# Altium footprint library QUTMS_PCBLibrary.PcbLib: 34 footprints (part 2 of 3)
Each footprint in its own frame and in the unit in brackets; x right, y up, seen from the top. Pads: shape width x height; smd on the part's side, far side on the other; paste and mask are expansions set on the pad; w line width, h text height; cw(c..) or ccw(c..) is an arc to the next point about the centre after c.
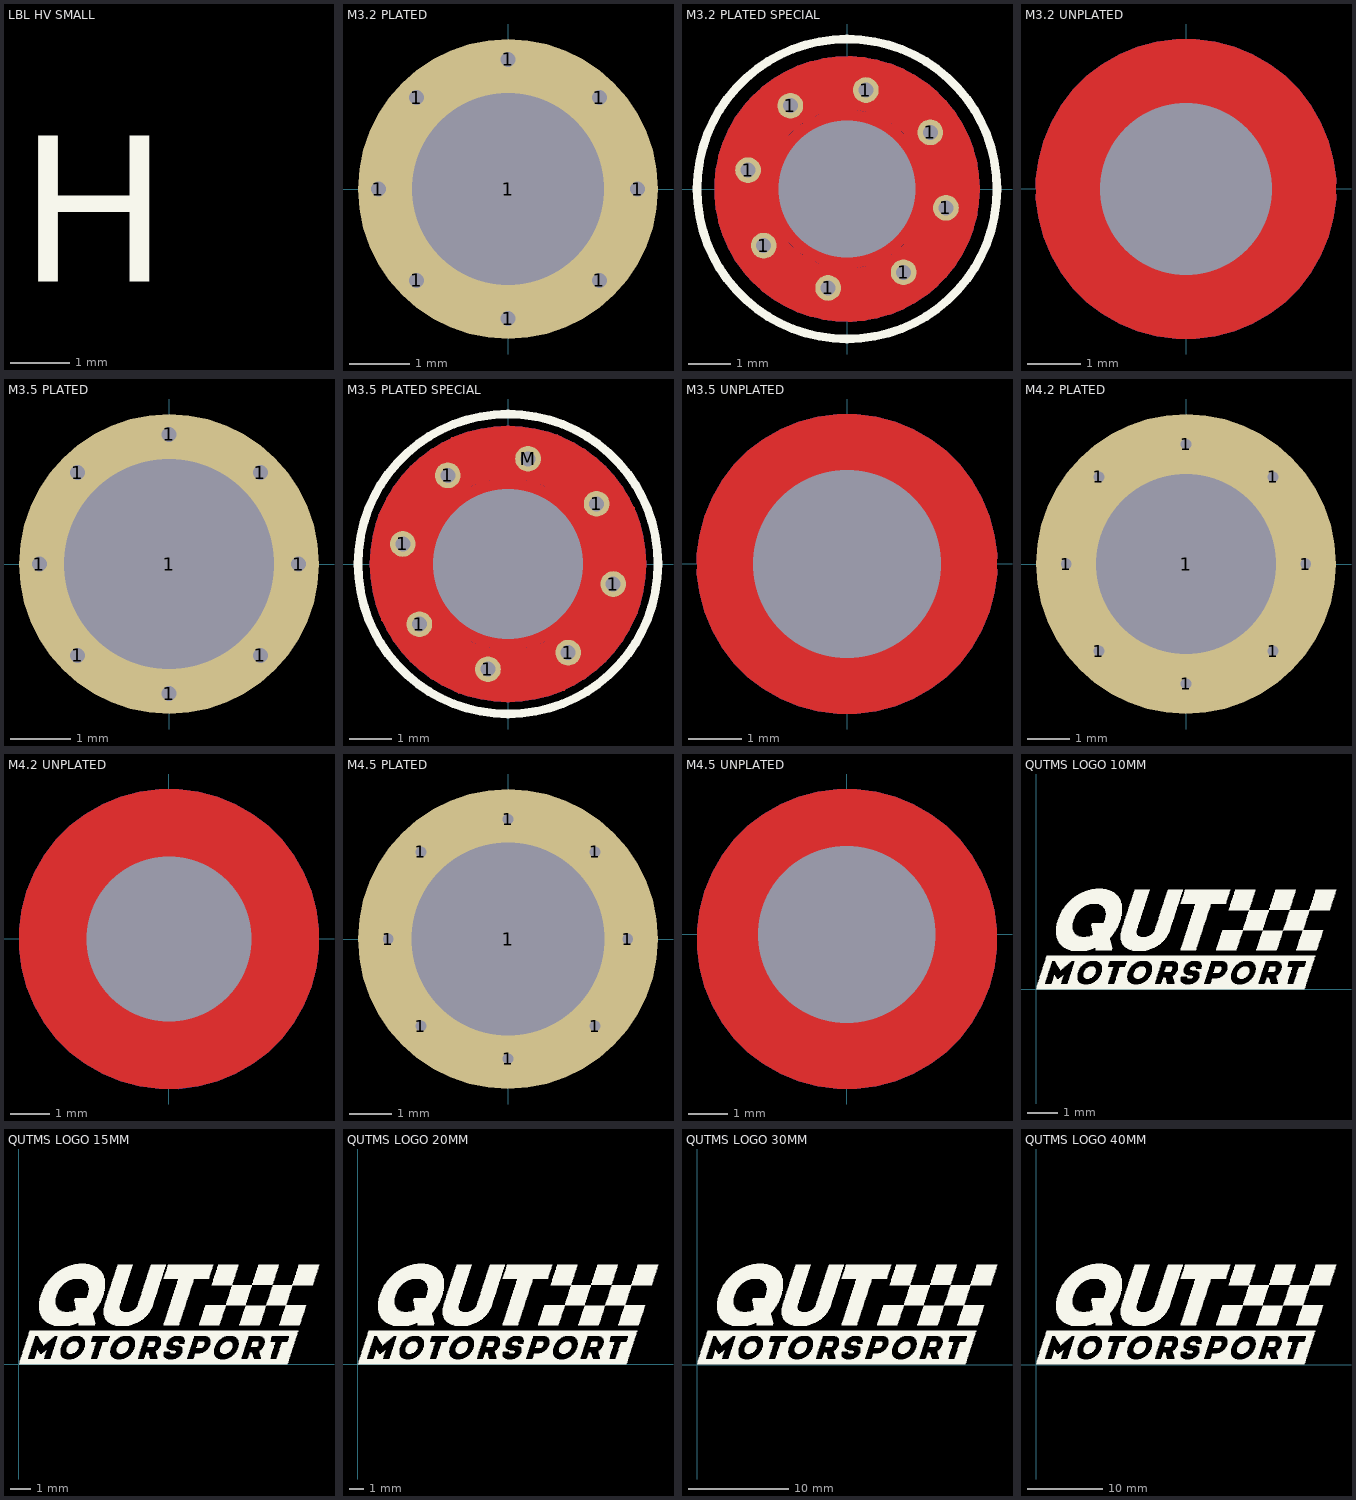
[diagram p1: the footprints below, top view; thin cyan lines are the x and y axes]

## LBL HV SMALL [mil]
Top Overlay:
  text "H" at -393.7,-393.7 h200

## M3.2 PLATED [mil]
pads (9):
  round 20 hole 10: 1(-85,0) 1(-60,-60) 1(-60,60) 1(0,-85) 1(0,85) 1(60,-60) 1(60,60) 1(85,0)
  round 196.85 hole 125.98: 1(0,0)

## M3.2 PLATED SPECIAL [mm]
pads (9):
  round 0.6 hole 0.35 mask+0.102: 1(-2.308,0.44) 1(-1.944,-1.321) 1(-1.321,1.944) 1(-0.44,-2.308) 1(0.44,2.308) 1(1.321,-1.944) 1(1.944,1.321) 1(2.308,-0.44)
  round 0 hole 3.2 unplated: 1(0,0)
Top Layer:
  circle w0.5: c0,0 r2.85
  circle w0.5: c0,0 r2.6
  circle w0.5: c0,0 r2.35
  circle w0.5: c0,0 r2.1
  pour cut-out: 0,-1.846 -0.182,-1.846 -0.538,-1.775 -0.874,-1.636 -1.177,-1.434 -1.434,-1.177 -1.636,-0.874 -1.775,-0.538 -1.846,-0.182 -1.846,0 -1.846,0.182 -1.775,0.538 -1.636,0.874 -1.434,1.177 -1.177,1.434 -0.874,1.636 -0.538,1.775 -0.182,1.846 0,1.846 0.182,1.846 0.538,1.775 0.874,1.636 1.177,1.434 1.434,1.177 1.636,0.874 1.775,0.538 1.846,0.182 1.846,0 1.846,-0.182 1.775,-0.538 1.636,-0.874 1.434,-1.177 1.177,-1.434 0.874,-1.636 0.538,-1.775 0.182,-1.846
Layer 1:
  pour cut-out: 0,-1.846 -0.182,-1.846 -0.538,-1.775 -0.874,-1.636 -1.177,-1.434 -1.434,-1.177 -1.636,-0.874 -1.775,-0.538 -1.846,-0.182 -1.846,0 -1.846,0.182 -1.775,0.538 -1.636,0.874 -1.434,1.177 -1.177,1.434 -0.874,1.636 -0.538,1.775 -0.182,1.846 0,1.846 0.182,1.846 0.538,1.775 0.874,1.636 1.177,1.434 1.434,1.177 1.636,0.874 1.775,0.538 1.846,0.182 1.846,0 1.846,-0.182 1.775,-0.538 1.636,-0.874 1.434,-1.177 1.177,-1.434 0.874,-1.636 0.538,-1.775 0.182,-1.846
Layer 2:
  pour cut-out: 0,-1.846 -0.182,-1.846 -0.538,-1.775 -0.874,-1.636 -1.177,-1.434 -1.434,-1.177 -1.636,-0.874 -1.775,-0.538 -1.846,-0.182 -1.846,0 -1.846,0.182 -1.775,0.538 -1.636,0.874 -1.434,1.177 -1.177,1.434 -0.874,1.636 -0.538,1.775 -0.182,1.846 0,1.846 0.182,1.846 0.538,1.775 0.874,1.636 1.177,1.434 1.434,1.177 1.636,0.874 1.775,0.538 1.846,0.182 1.846,0 1.846,-0.182 1.775,-0.538 1.636,-0.874 1.434,-1.177 1.177,-1.434 0.874,-1.636 0.538,-1.775 0.182,-1.846
Bottom Layer:
  circle w0.5: c0,0 r2.85
  circle w0.5: c0,0 r2.35
  circle w0.5: c0,0 r2.1
  circle w0.5: c0,0 r2.6
  pour cut-out: 0,-1.846 -0.182,-1.846 -0.538,-1.775 -0.874,-1.636 -1.177,-1.434 -1.434,-1.177 -1.636,-0.874 -1.775,-0.538 -1.846,-0.182 -1.846,0 -1.846,0.182 -1.775,0.538 -1.636,0.874 -1.434,1.177 -1.177,1.434 -0.874,1.636 -0.538,1.775 -0.182,1.846 0,1.846 0.182,1.846 0.538,1.775 0.874,1.636 1.177,1.434 1.434,1.177 1.636,0.874 1.775,0.538 1.846,0.182 1.846,0 1.846,-0.182 1.775,-0.538 1.636,-0.874 1.434,-1.177 1.177,-1.434 0.874,-1.636 0.538,-1.775 0.182,-1.846
Top Overlay:
  circle w0.2: c0,0 r3.5
Bottom Overlay:
  circle w0.2: c0,0 r3.5
Top Paste:
  region: 1.53,-1.039 1.462,-1.107 1.308,-1.302 1.108,-1.461 1.04,-1.529 1.169,-1.658 1.554,-1.762 1.938,-1.709 2.349,-1.609 2.919,-1.039 2.781,-0.622 2.537,-0.567 2.282,-0.724 1.873,-0.955
  region: 0.347,-1.817 0.251,-1.816 0.004,-1.846 -0.249,-1.816 -0.346,-1.816 -0.346,-1.999 -0.147,-2.345 0.162,-2.579 0.523,-2.799 1.33,-2.799 1.527,-2.406 1.393,-2.195 1.101,-2.126 0.649,-1.999
  region: -1.039,-1.53 -1.107,-1.462 -1.302,-1.308 -1.461,-1.108 -1.529,-1.04 -1.658,-1.169 -1.762,-1.554 -1.709,-1.938 -1.609,-2.349 -1.039,-2.919 -0.622,-2.781 -0.567,-2.537 -0.724,-2.282 -0.955,-1.873
  region: -1.817,-0.347 -1.816,-0.251 -1.846,-0.004 -1.816,0.249 -1.816,0.346 -1.999,0.346 -2.345,0.147 -2.579,-0.162 -2.799,-0.523 -2.799,-1.33 -2.406,-1.527 -2.195,-1.393 -2.126,-1.101 -1.999,-0.649
  region: -1.53,1.039 -1.462,1.107 -1.308,1.302 -1.108,1.461 -1.04,1.529 -1.169,1.658 -1.554,1.762 -1.938,1.709 -2.349,1.609 -2.919,1.039 -2.781,0.622 -2.537,0.567 -2.282,0.724 -1.873,0.955
  region: -0.347,1.817 -0.251,1.816 -0.004,1.846 0.249,1.816 0.346,1.816 0.346,1.999 0.147,2.345 -0.162,2.579 -0.523,2.799 -1.33,2.799 -1.527,2.406 -1.393,2.195 -1.101,2.126 -0.649,1.999
  region: 1.039,1.53 1.107,1.462 1.302,1.308 1.461,1.108 1.529,1.04 1.658,1.169 1.762,1.554 1.709,1.938 1.609,2.349 1.039,2.919 0.622,2.781 0.567,2.537 0.724,2.282 0.955,1.873
  region: 1.817,0.347 1.816,0.251 1.846,0.004 1.816,-0.249 1.816,-0.346 1.999,-0.346 2.345,-0.147 2.579,0.162 2.799,0.523 2.799,1.33 2.406,1.527 2.195,1.393 2.126,1.101 1.999,0.649
Bottom Paste:
  region: -1.039,-1.53 -1.107,-1.462 -1.302,-1.308 -1.461,-1.108 -1.529,-1.04 -1.658,-1.169 -1.762,-1.554 -1.709,-1.938 -1.609,-2.349 -1.039,-2.919 -0.622,-2.781 -0.567,-2.537 -0.724,-2.282 -0.955,-1.873
  region: -1.817,-0.347 -1.816,-0.251 -1.846,-0.004 -1.816,0.249 -1.816,0.346 -1.999,0.346 -2.345,0.147 -2.579,-0.162 -2.799,-0.523 -2.799,-1.33 -2.406,-1.527 -2.195,-1.393 -2.126,-1.101 -1.999,-0.649
  region: -1.53,1.039 -1.462,1.107 -1.308,1.302 -1.108,1.461 -1.04,1.529 -1.169,1.658 -1.554,1.762 -1.938,1.709 -2.349,1.609 -2.919,1.039 -2.781,0.622 -2.537,0.567 -2.282,0.724 -1.873,0.955
  region: -0.347,1.817 -0.251,1.816 -0.004,1.846 0.249,1.816 0.346,1.816 0.346,1.999 0.147,2.345 -0.162,2.579 -0.523,2.799 -1.33,2.799 -1.527,2.406 -1.393,2.195 -1.101,2.126 -0.649,1.999
  region: 1.039,1.53 1.107,1.462 1.302,1.308 1.461,1.108 1.529,1.04 1.658,1.169 1.762,1.554 1.709,1.938 1.609,2.349 1.039,2.919 0.622,2.781 0.567,2.537 0.724,2.282 0.955,1.873
  region: 1.817,0.347 1.816,0.251 1.846,0.004 1.816,-0.249 1.816,-0.346 1.999,-0.346 2.345,-0.147 2.579,0.162 2.799,0.523 2.799,1.33 2.406,1.527 2.195,1.393 2.126,1.101 1.999,0.649
  region: 1.53,-1.039 1.462,-1.107 1.308,-1.302 1.108,-1.461 1.04,-1.529 1.169,-1.658 1.554,-1.762 1.938,-1.709 2.349,-1.609 2.919,-1.039 2.781,-0.622 2.537,-0.567 2.282,-0.724 1.873,-0.955
  region: 0.347,-1.817 0.251,-1.816 0.004,-1.846 -0.249,-1.816 -0.346,-1.816 -0.346,-1.999 -0.147,-2.345 0.162,-2.579 0.523,-2.799 1.33,-2.799 1.527,-2.406 1.393,-2.195 1.101,-2.126 0.649,-1.999
Top Solder:
  region: -1.039,-1.53 -1.107,-1.462 -1.302,-1.308 -1.461,-1.108 -1.529,-1.04 -1.658,-1.169 -1.762,-1.554 -1.709,-1.938 -1.609,-2.349 -1.039,-2.919 -0.622,-2.781 -0.567,-2.537 -0.724,-2.282 -0.955,-1.873
  region: 1.817,0.347 1.816,0.251 1.846,0.004 1.816,-0.249 1.816,-0.346 1.999,-0.346 2.345,-0.147 2.579,0.162 2.799,0.523 2.799,1.33 2.406,1.527 2.195,1.393 2.126,1.101 1.999,0.649
  region: 1.039,1.53 1.107,1.462 1.302,1.308 1.461,1.108 1.529,1.04 1.658,1.169 1.762,1.554 1.709,1.938 1.609,2.349 1.039,2.919 0.622,2.781 0.567,2.537 0.724,2.282 0.955,1.873
  region: -0.347,1.817 -0.251,1.816 -0.004,1.846 0.249,1.816 0.346,1.816 0.346,1.999 0.147,2.345 -0.162,2.579 -0.523,2.799 -1.33,2.799 -1.527,2.406 -1.393,2.195 -1.101,2.126 -0.649,1.999
  region: -1.53,1.039 -1.462,1.107 -1.308,1.302 -1.108,1.461 -1.04,1.529 -1.169,1.658 -1.554,1.762 -1.938,1.709 -2.349,1.609 -2.919,1.039 -2.781,0.622 -2.537,0.567 -2.282,0.724 -1.873,0.955
  region: -1.817,-0.347 -1.816,-0.251 -1.846,-0.004 -1.816,0.249 -1.816,0.346 -1.999,0.346 -2.345,0.147 -2.579,-0.162 -2.799,-0.523 -2.799,-1.33 -2.406,-1.527 -2.195,-1.393 -2.126,-1.101 -1.999,-0.649
  region: 0.347,-1.817 0.251,-1.816 0.004,-1.846 -0.249,-1.816 -0.346,-1.816 -0.346,-1.999 -0.147,-2.345 0.162,-2.579 0.523,-2.799 1.33,-2.799 1.527,-2.406 1.393,-2.195 1.101,-2.126 0.649,-1.999
  region: 1.53,-1.039 1.462,-1.107 1.308,-1.302 1.108,-1.461 1.04,-1.529 1.169,-1.658 1.554,-1.762 1.938,-1.709 2.349,-1.609 2.919,-1.039 2.781,-0.622 2.537,-0.567 2.282,-0.724 1.873,-0.955
Bottom Solder:
  region: 1.53,-1.039 1.462,-1.107 1.308,-1.302 1.108,-1.461 1.04,-1.529 1.169,-1.658 1.554,-1.762 1.938,-1.709 2.349,-1.609 2.919,-1.039 2.781,-0.622 2.537,-0.567 2.282,-0.724 1.873,-0.955
  region: -1.039,-1.53 -1.107,-1.462 -1.302,-1.308 -1.461,-1.108 -1.529,-1.04 -1.658,-1.169 -1.762,-1.554 -1.709,-1.938 -1.609,-2.349 -1.039,-2.919 -0.622,-2.781 -0.567,-2.537 -0.724,-2.282 -0.955,-1.873
  region: -1.817,-0.347 -1.816,-0.251 -1.846,-0.004 -1.816,0.249 -1.816,0.346 -1.999,0.346 -2.345,0.147 -2.579,-0.162 -2.799,-0.523 -2.799,-1.33 -2.406,-1.527 -2.195,-1.393 -2.126,-1.101 -1.999,-0.649
  region: -1.53,1.039 -1.462,1.107 -1.308,1.302 -1.108,1.461 -1.04,1.529 -1.169,1.658 -1.554,1.762 -1.938,1.709 -2.349,1.609 -2.919,1.039 -2.781,0.622 -2.537,0.567 -2.282,0.724 -1.873,0.955
  region: -0.347,1.817 -0.251,1.816 -0.004,1.846 0.249,1.816 0.346,1.816 0.346,1.999 0.147,2.345 -0.162,2.579 -0.523,2.799 -1.33,2.799 -1.527,2.406 -1.393,2.195 -1.101,2.126 -0.649,1.999
  region: 1.039,1.53 1.107,1.462 1.302,1.308 1.461,1.108 1.529,1.04 1.658,1.169 1.762,1.554 1.709,1.938 1.609,2.349 1.039,2.919 0.622,2.781 0.567,2.537 0.724,2.282 0.955,1.873
  region: 1.817,0.347 1.816,0.251 1.846,0.004 1.816,-0.249 1.816,-0.346 1.999,-0.346 2.345,-0.147 2.579,0.162 2.799,0.523 2.799,1.33 2.406,1.527 2.195,1.393 2.126,1.101 1.999,0.649
  region: 0.347,-1.817 0.251,-1.816 0.004,-1.846 -0.249,-1.816 -0.346,-1.816 -0.346,-1.999 -0.147,-2.345 0.162,-2.579 0.523,-2.799 1.33,-2.799 1.527,-2.406 1.393,-2.195 1.101,-2.126 0.649,-1.999

## M3.2 UNPLATED [mm]
pads (1):
  round 0 hole 3.2 unplated mask+2.6: 1(0,0)
Top Layer:
  pour cut-out: 0,-2.794 -0.183,-2.794 -0.546,-2.746 -0.9,-2.651 -1.238,-2.511 -1.556,-2.328 -1.846,-2.105 -2.105,-1.846 -2.328,-1.556 -2.511,-1.238 -2.651,-0.9 -2.746,-0.546 -2.794,-0.183 -2.794,0 -2.794,0.183 -2.746,0.546 -2.651,0.9 -2.511,1.238 -2.328,1.556 -2.105,1.846 -1.846,2.105 -1.556,2.328 -1.238,2.511 -0.9,2.651 -0.546,2.746 -0.183,2.794 0,2.794 0.183,2.794 0.546,2.746 0.9,2.651 1.238,2.511 1.556,2.328 1.846,2.105 2.105,1.846 2.328,1.556 2.511,1.238 2.651,0.9 2.746,0.546 2.794,0.183 2.794,0 2.794,-0.183 2.746,-0.546 2.651,-0.9 2.511,-1.238 2.328,-1.556 2.105,-1.846 1.846,-2.105 1.556,-2.328 1.238,-2.511 0.9,-2.651 0.546,-2.746 0.183,-2.794
Bottom Layer:
  pour cut-out: 0,-2.794 -0.183,-2.794 -0.546,-2.746 -0.9,-2.651 -1.238,-2.511 -1.556,-2.328 -1.846,-2.105 -2.105,-1.846 -2.328,-1.556 -2.511,-1.238 -2.651,-0.9 -2.746,-0.546 -2.794,-0.183 -2.794,0 -2.794,0.183 -2.746,0.546 -2.651,0.9 -2.511,1.238 -2.328,1.556 -2.105,1.846 -1.846,2.105 -1.556,2.328 -1.238,2.511 -0.9,2.651 -0.546,2.746 -0.183,2.794 0,2.794 0.183,2.794 0.546,2.746 0.9,2.651 1.238,2.511 1.556,2.328 1.846,2.105 2.105,1.846 2.328,1.556 2.511,1.238 2.651,0.9 2.746,0.546 2.794,0.183 2.794,0 2.794,-0.183 2.746,-0.546 2.651,-0.9 2.511,-1.238 2.328,-1.556 2.105,-1.846 1.846,-2.105 1.556,-2.328 1.238,-2.511 0.9,-2.651 0.546,-2.746 0.183,-2.794

## M3.5 PLATED [mil]
pads (9):
  round 20 hole 10: 1(-85,0) 1(-60,-60) 1(-60,60) 1(0,-85) 1(0,85) 1(60,-60) 1(60,60) 1(85,0)
  round 196.85 hole 137.8: 1(0,0)

## M3.5 PLATED SPECIAL [mm]
pads (9):
  round 0.6 hole 0.35 mask+0.102: 1(-2.456,0.468) 1(-2.068,-1.405) 1(-1.405,2.068) 1(-0.468,-2.456) 1(1.405,-2.068) 1(2.068,1.405) 1(2.456,-0.468) M(0.468,2.456)
  round 0 hole 3.5 unplated: 1(0,0)
Top Layer:
  circle w0.5: c0,0 r2.616
  circle w0.4: c0,0 r2.2
  circle w0.5: c0,0 r2.9
  circle w0.254: c0,0 r3.1
  region: 1.151,1.636 1.219,1.568 1.414,1.414 1.573,1.214 1.641,1.146 1.771,1.275 1.874,1.66 1.821,2.044 1.721,2.455 1.151,3.025 0.734,2.887 0.679,2.643 0.837,2.388 1.067,1.979
  region: 1.971,0.343 1.971,0.246 2,0 1.971,-0.254 1.971,-0.35 2.154,-0.35 2.499,-0.151 2.733,0.158 2.953,0.519 2.953,1.325 2.561,1.523 2.35,1.389 2.28,1.097 2.154,0.645
  region: 1.636,-1.151 1.568,-1.219 1.414,-1.414 1.214,-1.573 1.146,-1.641 1.275,-1.771 1.66,-1.874 2.044,-1.821 2.455,-1.721 3.025,-1.151 2.887,-0.734 2.643,-0.679 2.388,-0.837 1.979,-1.067
  region: 0.343,-1.971 0.246,-1.971 0,-2 -0.254,-1.971 -0.35,-1.971 -0.35,-2.154 -0.151,-2.499 0.158,-2.733 0.519,-2.953 1.325,-2.953 1.523,-2.561 1.389,-2.35 1.097,-2.28 0.645,-2.154
  region: -1.151,-1.636 -1.219,-1.568 -1.414,-1.414 -1.573,-1.214 -1.641,-1.146 -1.771,-1.275 -1.874,-1.66 -1.821,-2.044 -1.721,-2.455 -1.151,-3.025 -0.734,-2.887 -0.679,-2.643 -0.837,-2.388 -1.067,-1.979
  region: -1.971,-0.343 -1.971,-0.246 -2,0 -1.971,0.254 -1.971,0.35 -2.154,0.35 -2.499,0.151 -2.733,-0.158 -2.953,-0.519 -2.953,-1.325 -2.561,-1.523 -2.35,-1.389 -2.28,-1.097 -2.154,-0.645
  region: -1.636,1.151 -1.568,1.219 -1.414,1.414 -1.214,1.573 -1.146,1.641 -1.275,1.771 -1.66,1.874 -2.044,1.821 -2.455,1.721 -3.025,1.151 -2.887,0.734 -2.643,0.679 -2.388,0.837 -1.979,1.067
  region: -0.343,1.971 -0.246,1.971 0,2 0.254,1.971 0.35,1.971 0.35,2.154 0.151,2.499 -0.158,2.733 -0.519,2.953 -1.325,2.953 -1.523,2.561 -1.389,2.35 -1.097,2.28 -0.645,2.154
  pour cut-out: 0,-2 -0.197,-2 -0.583,-1.923 -0.947,-1.772 -1.275,-1.553 -1.553,-1.275 -1.772,-0.947 -1.923,-0.583 -2,-0.197 -2,0 -2,0.197 -1.923,0.583 -1.772,0.947 -1.553,1.275 -1.275,1.553 -0.947,1.772 -0.583,1.923 -0.197,2 0,2 0.197,2 0.583,1.923 0.947,1.772 1.275,1.553 1.553,1.275 1.772,0.947 1.923,0.583 2,0.197 2,0 2,-0.197 1.923,-0.583 1.772,-0.947 1.553,-1.275 1.275,-1.553 0.947,-1.772 0.583,-1.923 0.197,-2
Layer 1:
  pour cut-out: 0,-2 -0.197,-2 -0.583,-1.923 -0.947,-1.772 -1.275,-1.553 -1.553,-1.275 -1.772,-0.947 -1.923,-0.583 -2,-0.197 -2,0 -2,0.197 -1.923,0.583 -1.772,0.947 -1.553,1.275 -1.275,1.553 -0.947,1.772 -0.583,1.923 -0.197,2 0,2 0.197,2 0.583,1.923 0.947,1.772 1.275,1.553 1.553,1.275 1.772,0.947 1.923,0.583 2,0.197 2,0 2,-0.197 1.923,-0.583 1.772,-0.947 1.553,-1.275 1.275,-1.553 0.947,-1.772 0.583,-1.923 0.197,-2
Layer 2:
  pour cut-out: 0,-2 -0.197,-2 -0.583,-1.923 -0.947,-1.772 -1.275,-1.553 -1.553,-1.275 -1.772,-0.947 -1.923,-0.583 -2,-0.197 -2,0 -2,0.197 -1.923,0.583 -1.772,0.947 -1.553,1.275 -1.275,1.553 -0.947,1.772 -0.583,1.923 -0.197,2 0,2 0.197,2 0.583,1.923 0.947,1.772 1.275,1.553 1.553,1.275 1.772,0.947 1.923,0.583 2,0.197 2,0 2,-0.197 1.923,-0.583 1.772,-0.947 1.553,-1.275 1.275,-1.553 0.947,-1.772 0.583,-1.923 0.197,-2
Bottom Layer:
  circle w0.254: c0,0 r3.1
  circle w0.4: c0,0 r2.2
  circle w0.5: c0,0 r2.616
  circle w0.5: c0,0 r2.9
  region: 0.343,-1.971 0.246,-1.971 0,-2 -0.254,-1.971 -0.35,-1.971 -0.35,-2.154 -0.151,-2.499 0.158,-2.733 0.519,-2.953 1.325,-2.953 1.523,-2.561 1.389,-2.35 1.097,-2.28 0.645,-2.154
  region: 1.636,-1.151 1.568,-1.219 1.414,-1.414 1.214,-1.573 1.146,-1.641 1.275,-1.771 1.66,-1.874 2.044,-1.821 2.455,-1.721 3.025,-1.151 2.887,-0.734 2.643,-0.679 2.388,-0.837 1.979,-1.067
  region: 1.971,0.343 1.971,0.246 2,0 1.971,-0.254 1.971,-0.35 2.154,-0.35 2.499,-0.151 2.733,0.158 2.953,0.519 2.953,1.325 2.561,1.523 2.35,1.389 2.28,1.097 2.154,0.645
  region: 1.151,1.636 1.219,1.568 1.414,1.414 1.573,1.214 1.641,1.146 1.771,1.275 1.874,1.66 1.821,2.044 1.721,2.455 1.151,3.025 0.734,2.887 0.679,2.643 0.837,2.388 1.067,1.979
  region: -0.343,1.971 -0.246,1.971 0,2 0.254,1.971 0.35,1.971 0.35,2.154 0.151,2.499 -0.158,2.733 -0.519,2.953 -1.325,2.953 -1.523,2.561 -1.389,2.35 -1.097,2.28 -0.645,2.154
  region: -1.636,1.151 -1.568,1.219 -1.414,1.414 -1.214,1.573 -1.146,1.641 -1.275,1.771 -1.66,1.874 -2.044,1.821 -2.455,1.721 -3.025,1.151 -2.887,0.734 -2.643,0.679 -2.388,0.837 -1.979,1.067
  region: -1.971,-0.343 -1.971,-0.246 -2,0 -1.971,0.254 -1.971,0.35 -2.154,0.35 -2.499,0.151 -2.733,-0.158 -2.953,-0.519 -2.953,-1.325 -2.561,-1.523 -2.35,-1.389 -2.28,-1.097 -2.154,-0.645
  region: -1.151,-1.636 -1.219,-1.568 -1.414,-1.414 -1.573,-1.214 -1.641,-1.146 -1.771,-1.275 -1.874,-1.66 -1.821,-2.044 -1.721,-2.455 -1.151,-3.025 -0.734,-2.887 -0.679,-2.643 -0.837,-2.388 -1.067,-1.979
  pour cut-out: 0,-2 -0.197,-2 -0.583,-1.923 -0.947,-1.772 -1.275,-1.553 -1.553,-1.275 -1.772,-0.947 -1.923,-0.583 -2,-0.197 -2,0 -2,0.197 -1.923,0.583 -1.772,0.947 -1.553,1.275 -1.275,1.553 -0.947,1.772 -0.583,1.923 -0.197,2 0,2 0.197,2 0.583,1.923 0.947,1.772 1.275,1.553 1.553,1.275 1.772,0.947 1.923,0.583 2,0.197 2,0 2,-0.197 1.923,-0.583 1.772,-0.947 1.553,-1.275 1.275,-1.553 0.947,-1.772 0.583,-1.923 0.197,-2
Top Overlay:
  circle w0.2: c0,0 r3.5
Bottom Overlay:
  circle w0.2: c0,0 r3.5
Top Paste:
  region: 0.343,-1.971 0.246,-1.971 0,-2 -0.254,-1.971 -0.35,-1.971 -0.35,-2.154 -0.151,-2.499 0.158,-2.733 0.519,-2.953 1.325,-2.953 1.523,-2.561 1.389,-2.35 1.097,-2.28 0.645,-2.154
  region: 1.636,-1.151 1.568,-1.219 1.414,-1.414 1.214,-1.573 1.146,-1.641 1.275,-1.771 1.66,-1.874 2.044,-1.821 2.455,-1.721 3.025,-1.151 2.887,-0.734 2.643,-0.679 2.388,-0.837 1.979,-1.067
  region: 1.971,0.343 1.971,0.246 2,0 1.971,-0.254 1.971,-0.35 2.154,-0.35 2.499,-0.151 2.733,0.158 2.953,0.519 2.953,1.325 2.561,1.523 2.35,1.389 2.28,1.097 2.154,0.645
  region: 1.151,1.636 1.219,1.568 1.414,1.414 1.573,1.214 1.641,1.146 1.771,1.275 1.874,1.66 1.821,2.044 1.721,2.455 1.151,3.025 0.734,2.887 0.679,2.643 0.837,2.388 1.067,1.979
  region: -0.343,1.971 -0.246,1.971 0,2 0.254,1.971 0.35,1.971 0.35,2.154 0.151,2.499 -0.158,2.733 -0.519,2.953 -1.325,2.953 -1.523,2.561 -1.389,2.35 -1.097,2.28 -0.645,2.154
  region: -1.636,1.151 -1.568,1.219 -1.414,1.414 -1.214,1.573 -1.146,1.641 -1.275,1.771 -1.66,1.874 -2.044,1.821 -2.455,1.721 -3.025,1.151 -2.887,0.734 -2.643,0.679 -2.388,0.837 -1.979,1.067
  region: -1.971,-0.343 -1.971,-0.246 -2,0 -1.971,0.254 -1.971,0.35 -2.154,0.35 -2.499,0.151 -2.733,-0.158 -2.953,-0.519 -2.953,-1.325 -2.561,-1.523 -2.35,-1.389 -2.28,-1.097 -2.154,-0.645
  region: -1.151,-1.636 -1.219,-1.568 -1.414,-1.414 -1.573,-1.214 -1.641,-1.146 -1.771,-1.275 -1.874,-1.66 -1.821,-2.044 -1.721,-2.455 -1.151,-3.025 -0.734,-2.887 -0.679,-2.643 -0.837,-2.388 -1.067,-1.979
Bottom Paste:
  region: 1.636,-1.151 1.568,-1.219 1.414,-1.414 1.214,-1.573 1.146,-1.641 1.275,-1.771 1.66,-1.874 2.044,-1.821 2.455,-1.721 3.025,-1.151 2.887,-0.734 2.643,-0.679 2.388,-0.837 1.979,-1.067
  region: 0.343,-1.971 0.246,-1.971 0,-2 -0.254,-1.971 -0.35,-1.971 -0.35,-2.154 -0.151,-2.499 0.158,-2.733 0.519,-2.953 1.325,-2.953 1.523,-2.561 1.389,-2.35 1.097,-2.28 0.645,-2.154
  region: -1.151,-1.636 -1.219,-1.568 -1.414,-1.414 -1.573,-1.214 -1.641,-1.146 -1.771,-1.275 -1.874,-1.66 -1.821,-2.044 -1.721,-2.455 -1.151,-3.025 -0.734,-2.887 -0.679,-2.643 -0.837,-2.388 -1.067,-1.979
  region: -1.971,-0.343 -1.971,-0.246 -2,0 -1.971,0.254 -1.971,0.35 -2.154,0.35 -2.499,0.151 -2.733,-0.158 -2.953,-0.519 -2.953,-1.325 -2.561,-1.523 -2.35,-1.389 -2.28,-1.097 -2.154,-0.645
  region: -1.636,1.151 -1.568,1.219 -1.414,1.414 -1.214,1.573 -1.146,1.641 -1.275,1.771 -1.66,1.874 -2.044,1.821 -2.455,1.721 -3.025,1.151 -2.887,0.734 -2.643,0.679 -2.388,0.837 -1.979,1.067
  region: -0.343,1.971 -0.246,1.971 0,2 0.254,1.971 0.35,1.971 0.35,2.154 0.151,2.499 -0.158,2.733 -0.519,2.953 -1.325,2.953 -1.523,2.561 -1.389,2.35 -1.097,2.28 -0.645,2.154
  region: 1.151,1.636 1.219,1.568 1.414,1.414 1.573,1.214 1.641,1.146 1.771,1.275 1.874,1.66 1.821,2.044 1.721,2.455 1.151,3.025 0.734,2.887 0.679,2.643 0.837,2.388 1.067,1.979
  region: 1.971,0.343 1.971,0.246 2,0 1.971,-0.254 1.971,-0.35 2.154,-0.35 2.499,-0.151 2.733,0.158 2.953,0.519 2.953,1.325 2.561,1.523 2.35,1.389 2.28,1.097 2.154,0.645
Top Solder:
  region: 0.343,-1.971 0.246,-1.971 0,-2 -0.254,-1.971 -0.35,-1.971 -0.35,-2.154 -0.151,-2.499 0.158,-2.733 0.519,-2.953 1.325,-2.953 1.523,-2.561 1.389,-2.35 1.097,-2.28 0.645,-2.154
  region: 1.971,0.343 1.971,0.246 2,0 1.971,-0.254 1.971,-0.35 2.154,-0.35 2.499,-0.151 2.733,0.158 2.953,0.519 2.953,1.325 2.561,1.523 2.35,1.389 2.28,1.097 2.154,0.645
  region: 1.636,-1.151 1.568,-1.219 1.414,-1.414 1.214,-1.573 1.146,-1.641 1.275,-1.771 1.66,-1.874 2.044,-1.821 2.455,-1.721 3.025,-1.151 2.887,-0.734 2.643,-0.679 2.388,-0.837 1.979,-1.067
  region: 1.151,1.636 1.219,1.568 1.414,1.414 1.573,1.214 1.641,1.146 1.771,1.275 1.874,1.66 1.821,2.044 1.721,2.455 1.151,3.025 0.734,2.887 0.679,2.643 0.837,2.388 1.067,1.979
  region: -0.343,1.971 -0.246,1.971 0,2 0.254,1.971 0.35,1.971 0.35,2.154 0.151,2.499 -0.158,2.733 -0.519,2.953 -1.325,2.953 -1.523,2.561 -1.389,2.35 -1.097,2.28 -0.645,2.154
  region: -1.151,-1.636 -1.219,-1.568 -1.414,-1.414 -1.573,-1.214 -1.641,-1.146 -1.771,-1.275 -1.874,-1.66 -1.821,-2.044 -1.721,-2.455 -1.151,-3.025 -0.734,-2.887 -0.679,-2.643 -0.837,-2.388 -1.067,-1.979
  region: -1.971,-0.343 -1.971,-0.246 -2,0 -1.971,0.254 -1.971,0.35 -2.154,0.35 -2.499,0.151 -2.733,-0.158 -2.953,-0.519 -2.953,-1.325 -2.561,-1.523 -2.35,-1.389 -2.28,-1.097 -2.154,-0.645
  region: -1.636,1.151 -1.568,1.219 -1.414,1.414 -1.214,1.573 -1.146,1.641 -1.275,1.771 -1.66,1.874 -2.044,1.821 -2.455,1.721 -3.025,1.151 -2.887,0.734 -2.643,0.679 -2.388,0.837 -1.979,1.067
Bottom Solder:
  region: -1.151,-1.636 -1.219,-1.568 -1.414,-1.414 -1.573,-1.214 -1.641,-1.146 -1.771,-1.275 -1.874,-1.66 -1.821,-2.044 -1.721,-2.455 -1.151,-3.025 -0.734,-2.887 -0.679,-2.643 -0.837,-2.388 -1.067,-1.979
  region: 0.343,-1.971 0.246,-1.971 0,-2 -0.254,-1.971 -0.35,-1.971 -0.35,-2.154 -0.151,-2.499 0.158,-2.733 0.519,-2.953 1.325,-2.953 1.523,-2.561 1.389,-2.35 1.097,-2.28 0.645,-2.154
  region: 1.636,-1.151 1.568,-1.219 1.414,-1.414 1.214,-1.573 1.146,-1.641 1.275,-1.771 1.66,-1.874 2.044,-1.821 2.455,-1.721 3.025,-1.151 2.887,-0.734 2.643,-0.679 2.388,-0.837 1.979,-1.067
  region: 1.971,0.343 1.971,0.246 2,0 1.971,-0.254 1.971,-0.35 2.154,-0.35 2.499,-0.151 2.733,0.158 2.953,0.519 2.953,1.325 2.561,1.523 2.35,1.389 2.28,1.097 2.154,0.645
  region: 1.151,1.636 1.219,1.568 1.414,1.414 1.573,1.214 1.641,1.146 1.771,1.275 1.874,1.66 1.821,2.044 1.721,2.455 1.151,3.025 0.734,2.887 0.679,2.643 0.837,2.388 1.067,1.979
  region: -0.343,1.971 -0.246,1.971 0,2 0.254,1.971 0.35,1.971 0.35,2.154 0.151,2.499 -0.158,2.733 -0.519,2.953 -1.325,2.953 -1.523,2.561 -1.389,2.35 -1.097,2.28 -0.645,2.154
  region: -1.636,1.151 -1.568,1.219 -1.414,1.414 -1.214,1.573 -1.146,1.641 -1.275,1.771 -1.66,1.874 -2.044,1.821 -2.455,1.721 -3.025,1.151 -2.887,0.734 -2.643,0.679 -2.388,0.837 -1.979,1.067
  region: -1.971,-0.343 -1.971,-0.246 -2,0 -1.971,0.254 -1.971,0.35 -2.154,0.35 -2.499,0.151 -2.733,-0.158 -2.953,-0.519 -2.953,-1.325 -2.561,-1.523 -2.35,-1.389 -2.28,-1.097 -2.154,-0.645

## M3.5 UNPLATED [mm]
pads (1):
  round 0 hole 3.5 unplated mask+2.6: 1(0,0)
Top Layer:
  pour cut-out: 0,-2.794 -0.183,-2.794 -0.546,-2.746 -0.9,-2.651 -1.238,-2.511 -1.556,-2.328 -1.846,-2.105 -2.105,-1.846 -2.328,-1.556 -2.511,-1.238 -2.651,-0.9 -2.746,-0.546 -2.794,-0.183 -2.794,0 -2.794,0.183 -2.746,0.546 -2.651,0.9 -2.511,1.238 -2.328,1.556 -2.105,1.846 -1.846,2.105 -1.556,2.328 -1.238,2.511 -0.9,2.651 -0.546,2.746 -0.183,2.794 0,2.794 0.183,2.794 0.546,2.746 0.9,2.651 1.238,2.511 1.556,2.328 1.846,2.105 2.105,1.846 2.328,1.556 2.511,1.238 2.651,0.9 2.746,0.546 2.794,0.183 2.794,0 2.794,-0.183 2.746,-0.546 2.651,-0.9 2.511,-1.238 2.328,-1.556 2.105,-1.846 1.846,-2.105 1.556,-2.328 1.238,-2.511 0.9,-2.651 0.546,-2.746 0.183,-2.794
Bottom Layer:
  pour cut-out: 0,-2.794 -0.183,-2.794 -0.546,-2.746 -0.9,-2.651 -1.238,-2.511 -1.556,-2.328 -1.846,-2.105 -2.105,-1.846 -2.328,-1.556 -2.511,-1.238 -2.651,-0.9 -2.746,-0.546 -2.794,-0.183 -2.794,0 -2.794,0.183 -2.746,0.546 -2.651,0.9 -2.511,1.238 -2.328,1.556 -2.105,1.846 -1.846,2.105 -1.556,2.328 -1.238,2.511 -0.9,2.651 -0.546,2.746 -0.183,2.794 0,2.794 0.183,2.794 0.546,2.746 0.9,2.651 1.238,2.511 1.556,2.328 1.846,2.105 2.105,1.846 2.328,1.556 2.511,1.238 2.651,0.9 2.746,0.546 2.794,0.183 2.794,0 2.794,-0.183 2.746,-0.546 2.651,-0.9 2.511,-1.238 2.328,-1.556 2.105,-1.846 1.846,-2.105 1.556,-2.328 1.238,-2.511 0.9,-2.651 0.546,-2.746 0.183,-2.794

## M4.2 PLATED [mil]
pads (9):
  round 20 hole 10: 1(-110,0) 1(-80,-80) 1(-80,80) 1(0,-110) 1(0,110) 1(80,-80) 1(80,80) 1(110,0)
  round 275.59 hole 165.35: 1(0,0)

## M4.2 UNPLATED [mm]
pads (1):
  round 0 hole 4.2 unplated mask+3.6: 1(0,0)
Top Layer:
  pour cut-out: 0,-3.81 -0.25,-3.81 -0.745,-3.745 -1.227,-3.616 -1.689,-3.424 -2.121,-3.175 -2.518,-2.871 -2.871,-2.518 -3.175,-2.121 -3.424,-1.689 -3.616,-1.227 -3.745,-0.745 -3.81,-0.25 -3.81,0 -3.81,0.25 -3.745,0.745 -3.616,1.227 -3.424,1.689 -3.175,2.121 -2.871,2.517 -2.518,2.871 -2.121,3.175 -1.689,3.424 -1.227,3.616 -0.745,3.745 -0.25,3.81 0,3.81 0.25,3.81 0.745,3.745 1.227,3.616 1.689,3.424 2.121,3.175 2.517,2.871 2.871,2.518 3.175,2.121 3.424,1.689 3.616,1.227 3.745,0.745 3.81,0.25 3.81,0 3.81,-0.25 3.745,-0.745 3.616,-1.227 3.424,-1.689 3.175,-2.121 2.871,-2.518 2.518,-2.871 2.121,-3.175 1.689,-3.424 1.227,-3.616 0.745,-3.745 0.25,-3.81
Bottom Layer:
  pour cut-out: 0,-3.81 -0.25,-3.81 -0.745,-3.745 -1.227,-3.616 -1.689,-3.424 -2.121,-3.175 -2.518,-2.871 -2.871,-2.518 -3.175,-2.121 -3.424,-1.689 -3.616,-1.227 -3.745,-0.745 -3.81,-0.25 -3.81,0 -3.81,0.25 -3.745,0.745 -3.616,1.227 -3.424,1.689 -3.175,2.121 -2.871,2.517 -2.518,2.871 -2.121,3.175 -1.689,3.424 -1.227,3.616 -0.745,3.745 -0.25,3.81 0,3.81 0.25,3.81 0.745,3.745 1.227,3.616 1.689,3.424 2.121,3.175 2.518,2.871 2.871,2.518 3.175,2.121 3.424,1.689 3.616,1.227 3.745,0.745 3.81,0.25 3.81,0 3.81,-0.25 3.745,-0.745 3.616,-1.227 3.424,-1.689 3.175,-2.121 2.871,-2.518 2.518,-2.871 2.121,-3.175 1.689,-3.424 1.227,-3.616 0.745,-3.745 0.25,-3.81

## M4.5 PLATED [mil]
pads (9):
  round 20 hole 10: 1(-110,0) 1(-80,-80) 1(-80,80) 1(0,-110) 1(0,110) 1(80,-80) 1(80,80) 1(110,0)
  round 275.59 hole 177.17: 1(0,0)

## M4.5 UNPLATED [mm]
pads (1):
  round 0 hole 4.5 unplated mask+3.6: 1(0,0)
Top Layer:
  pour cut-out: 0.006,-3.927 -0.243,-3.927 -0.739,-3.862 -1.221,-3.732 -1.683,-3.541 -2.115,-3.291 -2.511,-2.987 -2.864,-2.634 -3.168,-2.238 -3.418,-1.805 -3.609,-1.344 -3.739,-0.862 -3.804,-0.366 -3.804,-0.117 -3.804,0.133 -3.739,0.628 -3.609,1.111 -3.418,1.572 -3.168,2.005 -2.864,2.401 -2.511,2.754 -2.115,3.058 -1.682,3.308 -1.221,3.499 -0.739,3.628 -0.243,3.693 0.006,3.693 0.256,3.693 0.751,3.628 1.234,3.499 1.695,3.308 2.128,3.058 2.524,2.754 2.877,2.401 3.181,2.005 3.431,1.572 3.622,1.111 3.751,0.628 3.816,0.133 3.816,-0.117 3.816,-0.366 3.751,-0.862 3.622,-1.344 3.431,-1.805 3.181,-2.238 2.877,-2.634 2.524,-2.987 2.128,-3.291 1.695,-3.541 1.234,-3.732 0.751,-3.862 0.256,-3.927
Bottom Layer:
  pour cut-out: 0.006,-3.927 -0.243,-3.927 -0.739,-3.862 -1.221,-3.732 -1.682,-3.541 -2.115,-3.291 -2.511,-2.987 -2.864,-2.634 -3.168,-2.238 -3.418,-1.805 -3.609,-1.344 -3.739,-0.862 -3.804,-0.366 -3.804,-0.117 -3.804,0.133 -3.739,0.628 -3.609,1.111 -3.418,1.572 -3.168,2.005 -2.864,2.401 -2.511,2.754 -2.115,3.058 -1.682,3.308 -1.221,3.499 -0.739,3.628 -0.243,3.693 0.006,3.693 0.256,3.693 0.751,3.628 1.234,3.499 1.695,3.308 2.128,3.058 2.524,2.754 2.877,2.401 3.181,2.005 3.431,1.572 3.622,1.111 3.751,0.628 3.816,0.133 3.816,-0.117 3.816,-0.366 3.751,-0.862 3.622,-1.344 3.431,-1.805 3.181,-2.238 2.877,-2.634 2.524,-2.987 2.128,-3.291 1.695,-3.541 1.234,-3.732 0.751,-3.862 0.256,-3.927

## QUTMS LOGO 10MM [mil]
Top Overlay:
  drawing of 14 lines, arcs and shapes, not listed

## QUTMS LOGO 15MM [mil]
Top Overlay:
  drawing of 14 lines, arcs and shapes, not listed

## QUTMS LOGO 20MM [mil]
Top Overlay:
  drawing of 14 lines, arcs and shapes, not listed

## QUTMS LOGO 30MM [mil]
Top Overlay:
  drawing of 14 lines, arcs and shapes, not listed

## QUTMS LOGO 40MM [mil]
Top Overlay:
  drawing of 14 lines, arcs and shapes, not listed